# EAGLE library part GME-832-120 (library con-berg_usb)
BERG
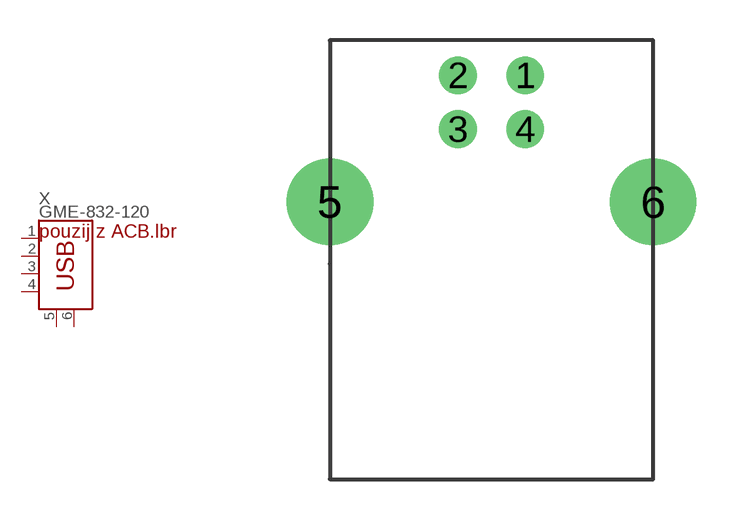
[diagram p0: symbol with the pads of GME-832-120; footprint GME-832-120]

Designator prefix X

## GME-832-120  [GME-832-120]
1  1
2  2
3  3
4  4
5  GND1
6  GND2

## Footprint GME-832-120 (pad centres in mm)
BERG USB B connector
drill 0.8 pad 1.4: 1 1.25,4.7; 2 -1.25,4.7; 3 -1.25,2.7; 4 1.25,2.7
drill 2.2 pad 2.8: 5 -6,0; 6 6,0